# Altium footprint library LOGO.PcbLib: 4 footprints
Each footprint in its own frame and in the unit in brackets; x right, y up, seen from the top. Pads: shape width x height; smd on the part's side, far side on the other; paste and mask are expansions set on the pad; w line width, h text height; cw(c..) or ccw(c..) is an arc to the next point about the centre after c.
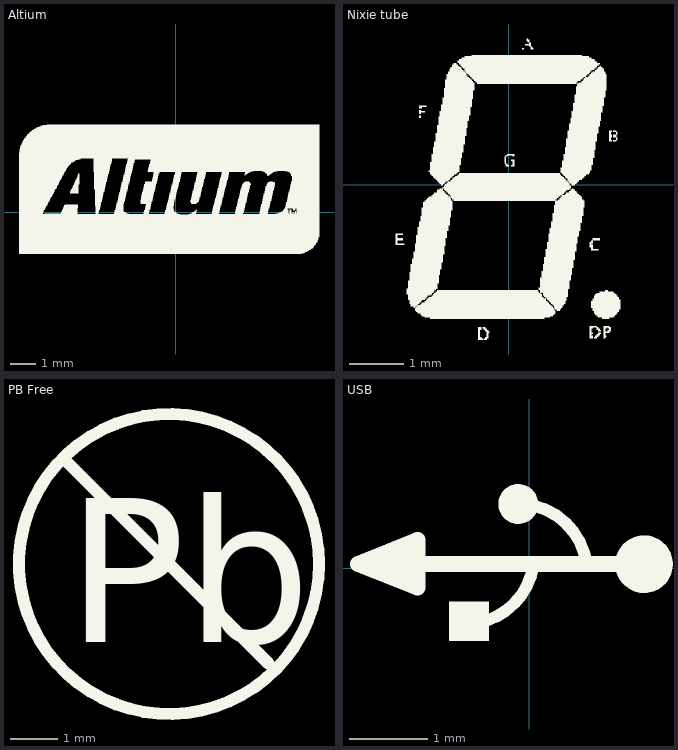
[diagram p0: the footprints below, top view; thin cyan lines are the x and y axes]

## Altium [mm]
Top Overlay:
  drawing of 903 lines, arcs and shapes, not listed

## Nixie tube [mm]
Top Overlay:
  drawing of 545 lines, arcs and shapes, not listed

## PB Free [mm]
Top Overlay:
  circle w0.254: c538.353,492.887 r3.172
  lines w0.254: 536.232,495.008 540.459,490.781
  text "Pb" at 536.194,491.236 h3.05

## USB [mm]
Top Overlay:
  circle w0.381: c1.469,0.051 r0.178
  circle w0.254: c-0.14,0.82 r0.127
  region: -0.512,-0.934 -0.512,-0.424 -1.022,-0.424 -1.022,-0.934
  lines w0.152: -0.554,-0.674 ccw(c-0.824,0.173) 0.057,0.053 ; -0.095,0.821 cw(c-0.146,-0.066) 0.734,0.053
  lines w0.203: -1.425,0.053 -2.189,0.053 ; 1.334,0.053 -2.189,0.053 ; -2.189,0.053 -1.427,-0.246 -1.427,0.363 -2.189,0.053
  lines w0.381: -1.63,0.053 -1.528,0.053